# EAGLE library part LEDDISP (library MicroBoard)
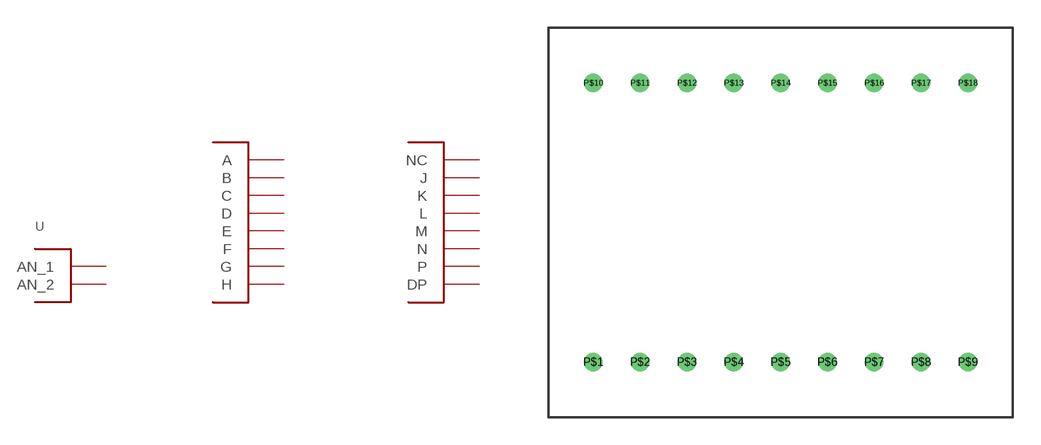
[diagram p4: symbol with the pads of LEDDISP; footprint LEDDISP]

Designator prefix -

## LEDDISP  [LEDDISP]
P$1  E
P$2  M
P$3  NC
P$4  L
P$5  K
P$6  J
P$7  D
P$8  DP
P$9  C
P$10  B
P$11  AN_2
P$12  A
P$13  N
P$14  H
P$15  G
P$16  AN_1
P$17  P
P$18  F

## Footprint LEDDISP (pad centres in mm)
drill 0.5: P$1 2.44,2.995; P$2 4.98,2.995; P$3 7.52,2.995; P$4 10.06,2.995; P$5 12.6,2.995; P$6 15.14,2.995; P$7 17.68,2.995; P$8 20.22,2.995; P$9 22.76,2.995; P$10 2.44,18.155; P$11 4.98,18.155; P$12 7.52,18.155; P$13 10.06,18.155; P$14 12.6,18.155; P$15 15.14,18.155; P$16 17.68,18.155; P$17 20.22,18.155; P$18 22.76,18.155